# EAGLE library part T8F49 (library EfinixTrio)
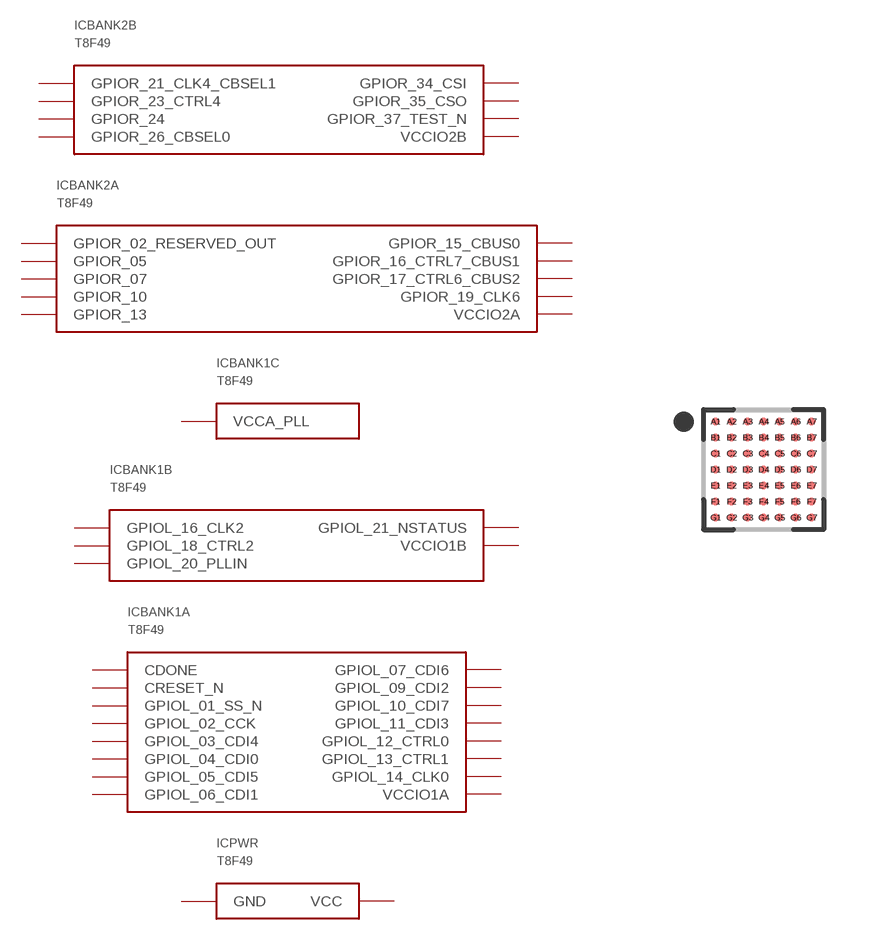
[diagram p18: symbol with the pads of FBGA49; footprint FBGA49]

Designator prefix IC; gates PWR=T8F49PWR BANK1A=T8F49BANK1A BANK1B=T8F49BANK1B BANK1C=T8F49BANK1C BANK2A=T8F49BANK2A BANK2B=T8F49BANK2B

## T8F49  [FBGA49]
A1  BANK1C:VCCA_PLL  pwr
A2  PWR:GND  pwr
A3  BANK1B:GPIOL_18_CTRL2
A4  BANK1B:GPIOL_21_NSTATUS
A5  BANK2A:GPIOR_05
A6  PWR:GND  pwr
A7  BANK2A:GPIOR_07
B1  PWR:GND  pwr
B2  BANK1B:VCCIO1B  pwr
B3  BANK1B:GPIOL_16_CLK2
B4  BANK1B:GPIOL_20_PLLIN
B5  BANK2A:GPIOR_02_RESERVED_OUT
B6  BANK2A:VCCIO2A  pwr
B7  BANK2A:GPIOR_10
C1  PWR:GND  pwr
C2  BANK1A:GPIOL_12_CTRL0
C3  BANK1A:GPIOL_14_CLK0
C4  PWR:VCC  pwr
C5  PWR:GND  pwr
C6  BANK2A:GPIOR_13
C7  BANK2A:GPIOR_16_CTRL7_CBUS1
D1  BANK1A:VCCIO1A  pwr
D2  BANK1A:GPIOL_11_CDI3
D3  BANK1A:GPIOL_13_CTRL1
D4  PWR:GND  pwr
D5  PWR:VCC  pwr
D6  BANK2A:GPIOR_15_CBUS0
D7  BANK2A:GPIOR_17_CTRL6_CBUS2
E1  BANK1A:GPIOL_10_CDI7
E2  BANK1A:GPIOL_09_CDI2
E3  BANK1A:GPIOL_07_CDI6
E4  BANK2B:GPIOR_21_CLK4_CBSEL1
E5  BANK2B:GPIOR_23_CTRL4
E6  BANK2A:GPIOR_19_CLK6
E7  PWR:GND  pwr
F1  BANK1A:GPIOL_06_CDI1
F2  BANK1A:GPIOL_04_CDI0
F3  BANK1A:GPIOL_02_CCK
F4  BANK1A:CDONE
F5  BANK2B:GPIOR_24
F6  BANK2B:GPIOR_26_CBSEL0
F7  BANK2B:VCCIO2B  pwr
G1  BANK1A:GPIOL_05_CDI5
G2  BANK1A:GPIOL_03_CDI4
G3  BANK1A:GPIOL_01_SS_N
G4  BANK1A:CRESET_N
G5  BANK2B:GPIOR_34_CSI
G6  BANK2B:GPIOR_35_CSO
G7  BANK2B:GPIOR_37_TEST_N

## Footprint FBGA49 (pad centres in mm)
49-BGA, collapsing, 0.40 mm pitch, 3.00 X 3.00 X 0.86 mm body 49-pin collapsing BGA package with 0.40 mm col pitch and 0.40 mm row pitch with body size 3.00 X 3.00 X 0.86 mm
smd 0.2 x 0.2: A1 -1.2,1.2; A2 -0.8,1.2; A3 -0.4,1.2; A4 0,1.2; A5 0.4,1.2; A6 0.8,1.2; A7 1.2,1.2; B1 -1.2,0.8; B2 -0.8,0.8; B3 -0.4,0.8; B4 0,0.8; B5 0.4,0.8; B6 0.8,0.8; B7 1.2,0.8; C1 -1.2,0.4; C2 -0.8,0.4; C3 -0.4,0.4; C4 0,0.4; C5 0.4,0.4; C6 0.8,0.4; C7 1.2,0.4; D1 -1.2,0; D2 -0.8,0; D3 -0.4,0; D4 0,0; D5 0.4,0; D6 0.8,0; D7 1.2,0; E1 -1.2,-0.4; E2 -0.8,-0.4; E3 -0.4,-0.4; E4 0,-0.4; E5 0.4,-0.4; E6 0.8,-0.4; E7 1.2,-0.4; F1 -1.2,-0.8; F2 -0.8,-0.8; F3 -0.4,-0.8; F4 0,-0.8; F5 0.4,-0.8; F6 0.8,-0.8; F7 1.2,-0.8; G1 -1.2,-1.2; G2 -0.8,-1.2; G3 -0.4,-1.2; G4 0,-1.2; G5 0.4,-1.2; G6 0.8,-1.2; G7 1.2,-1.2